# Altium schematic symbol library f330.SCHLIB: 5 symbols
Pins are listed as number, name and electrical type; pins without a type are passive.

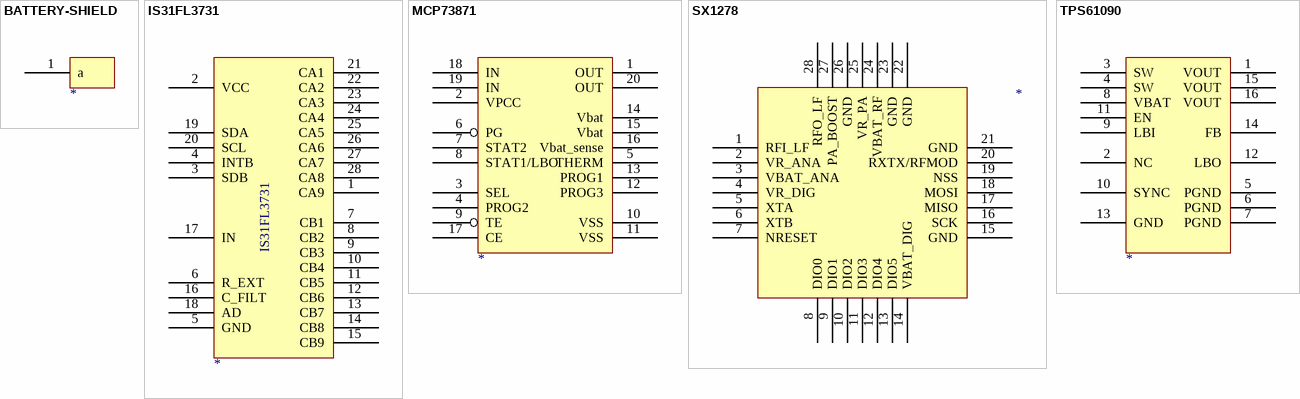
[diagram p0: symbols BATTERY-SHIELD to TPS61090]

## BATTERY-SHIELD
designator ?
pins: 1 a

## IS31FL3731
designator ?
pins: 1 CA9, 2 VCC, 3 SDB, 4 INTB, 5 GND, 6 R_EXT, 7 CB1, 8 CB2, 9 CB3, 10 CB4, 11 CB5, 12 CB6, 13 CB7, 14 CB8, 15 CB9, 16 C_FILT, 17 IN, 18 AD, 19 SDA, 20 SCL, 21 CA1, 22 CA2, 23 CA3, 24 CA4, 25 CA5, 26 CA6, 27 CA7, 28 CA8

## MCP73871
designator ?
pins: 1 OUT, 2 VPCC, 3 SEL, 4 PROG2, 5 THERM, 6 PG, 7 STAT2, 8 STAT1/LBO, 9 TE, 10 VSS, 11 VSS, 12 PROG3, 13 PROG1, 14 Vbat, 15 Vbat, 16 Vbat_sense, 17 CE, 18 IN, 19 IN, 20 OUT

## SX1278
designator ?
pins: 1 RFI_LF, 2 VR_ANA, 3 VBAT_ANA, 4 VR_DIG, 5 XTA, 6 XTB, 7 NRESET, 8 DIO0, 9 DIO1, 10 DIO2, 11 DIO3, 12 DIO4, 13 DIO5, 14 VBAT_DIG, 15 GND, 16 SCK, 17 MISO, 18 MOSI, 19 NSS, 20 RXTX/RFMOD, 21 GND, 22 GND, 23 GND, 24 VBAT_RF, 25 VR_PA, 26 GND, 27 PA_BOOST, 28 RFO_LF

## TPS61090
designator ?
pins: 1 VOUT, 2 NC, 3 SW, 4 SW, 5 PGND, 6 PGND, 7 PGND, 8 VBAT, 9 LBI, 10 SYNC, 11 EN, 12 LBO, 13 GND, 14 FB, 15 VOUT, 16 VOUT